# Altium footprint library DIOT_Sampler.PcbLib: 103 footprints (part 1 of 7)
Each footprint in its own frame and in the unit in brackets; x right, y up, seen from the top. Pads: shape width x height; smd on the part's side, far side on the other; paste and mask are expansions set on the pad; w line width, h text height; cw(c..) or ccw(c..) is an arc to the next point about the centre after c.
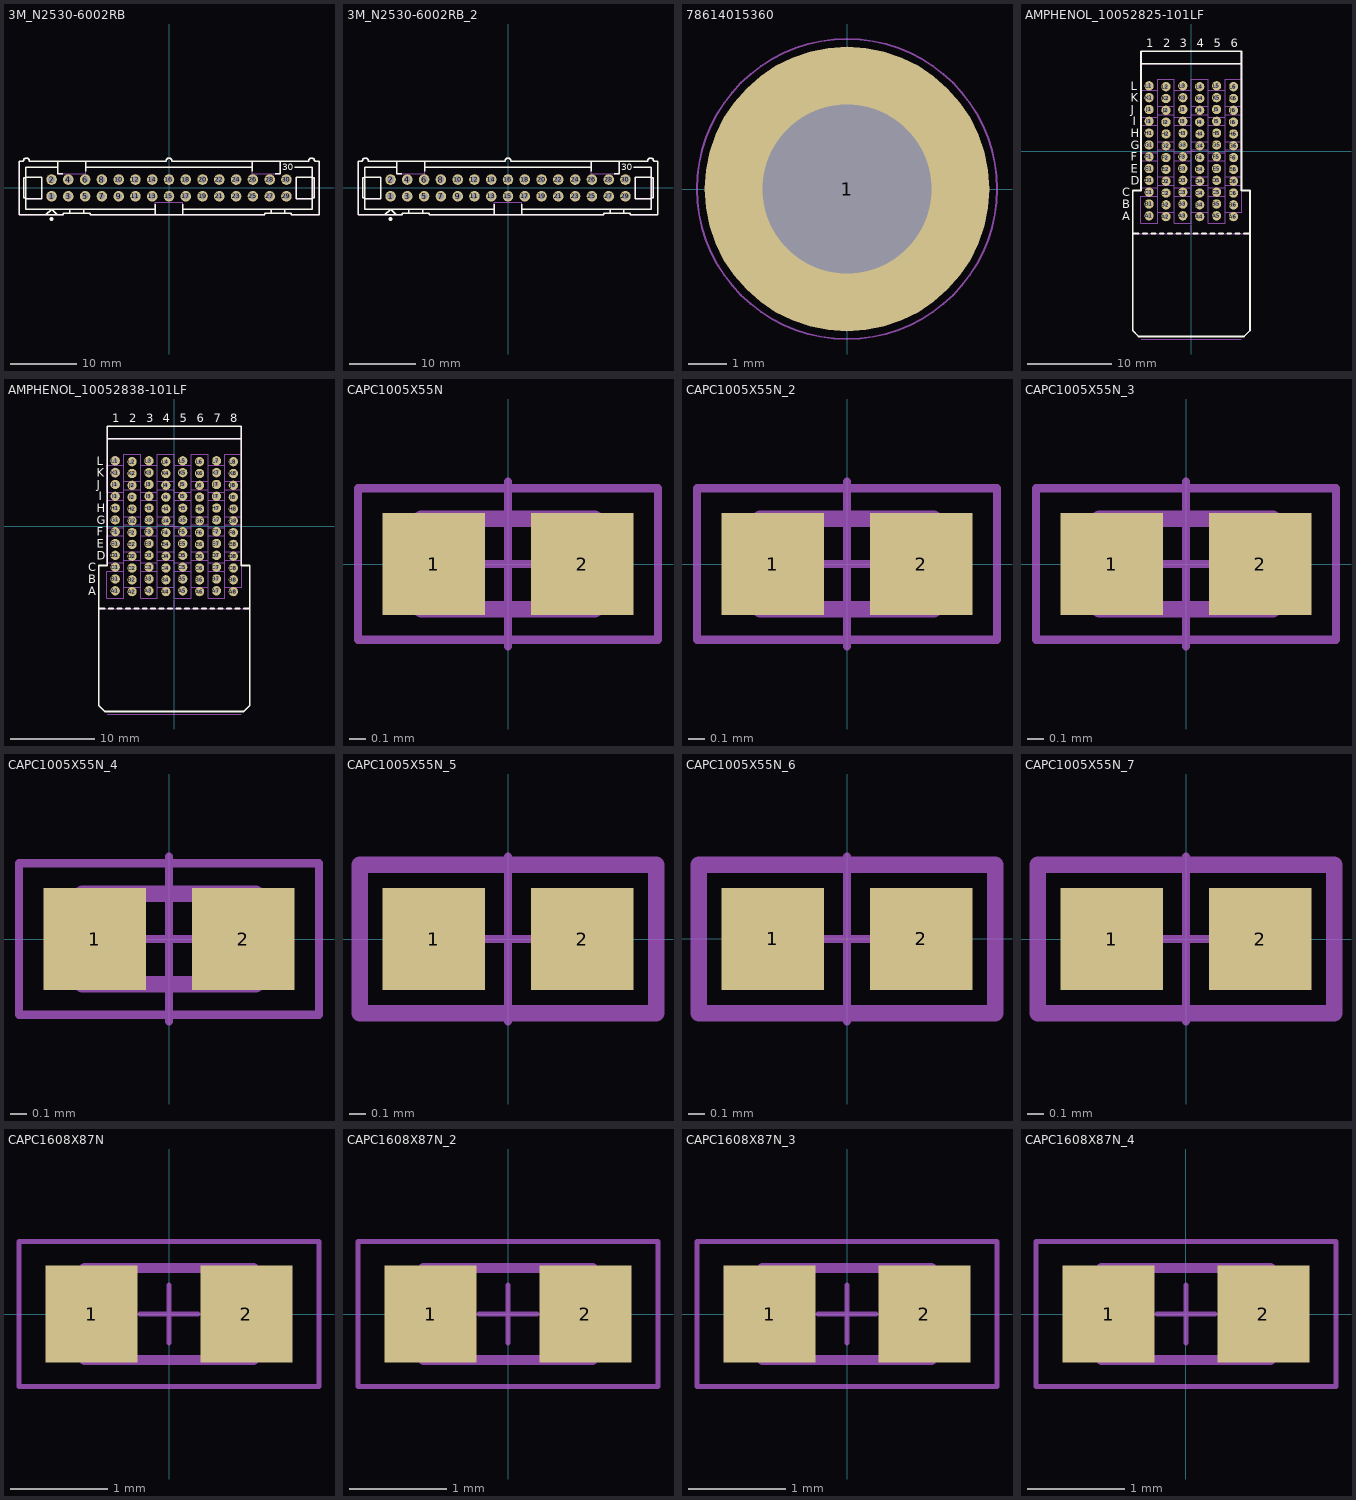
[diagram p0: the footprints below, top view; thin cyan lines are the x and y axes]

## 3M_N2530-6002RB [mm]
pads (30):
  round 1.6 hole 1: 1(-17.78,-1.27) 2(-17.78,1.27) 3(-15.24,-1.27) 4(-15.24,1.27) 5(-12.7,-1.27) 6(-12.7,1.27) 7(-10.16,-1.27) 8(-10.16,1.27) 9(-7.62,-1.27) 10(-7.62,1.27) 11(-5.08,-1.27) 12(-5.08,1.27) 13(-2.54,-1.27) 14(-2.54,1.27) 15(0,-1.27) 16(0,1.27) 17(2.54,-1.27) 18(2.54,1.27) 19(5.08,-1.27) 20(5.08,1.27) 21(7.62,-1.27) 22(7.62,1.27) 23(10.16,-1.27) 24(10.16,1.27) 25(12.7,-1.27) 26(12.7,1.27) 27(15.24,-1.27) 28(15.24,1.27) 29(17.78,-1.27) 30(17.78,1.27)
Top Overlay:
  circle w0.3: c-17.78,-4.699 r0.15
  lines w0.2: -21.692,-1.603 -19.279,-1.603 -19.279,1.603 -21.692,1.603 ; -21.692,-1.524 -21.996,-1.524 -21.996,1.524 -21.692,1.524 ; -18.644,-4.064 -17.78,-3.2 -16.916,-4.064 ; -16.828,3.15 -21.692,3.15 -21.692,-3.2 -2.095,-3.2 ; -16.828,4.064 -16.828,2.159 -16.119,2.159 ; -15.011,-3.835 -15.011,-3.2 ; -12.929,-3.835 -12.929,-3.2 ; -12.636,2.518 -12.636,4.064 ; -12.636,3.15 12.636,3.15 ; -2.095,-4.064 -2.095,-2.438 ; 2.095,-4.064 2.095,-2.438 ; 2.095,-3.2 21.692,-3.2 21.692,3.15 19.05,3.15 ; 12.636,2.518 12.636,4.064 ; 15.469,-3.835 15.469,-3.2 ; 16.119,2.159 16.828,2.159 16.828,4.064 ; 17.551,-3.835 17.551,-3.2 ; 21.692,-1.603 19.279,-1.603 19.279,1.603 21.692,1.603 ; 21.692,-1.524 21.996,-1.524 21.996,1.524 21.692,1.524 ; -22.708,-4.064 -22.708,4.064 -22.047,4.064 cw(c-21.59,4.064) -21.133,4.064 -0.457,4.064 cw(c0,4.064) 0.457,4.064 21.133,4.064 cw(c21.59,4.064) 22.047,4.064 22.708,4.064 22.708,-4.064 18.542,-4.064 18.542,-3.835 14.478,-3.835 14.478,-4.064 -11.938,-4.064 -11.938,-3.835 -16.002,-3.835 -16.002,-4.064 -22.708,-4.064
  text "30" at 17.145,2.667 h1.02
Mechanical 14:
  lines w0.1: -21.692,-1.603 -19.279,-1.603 -19.279,1.603 -21.692,1.603 ; -21.692,-1.524 -21.996,-1.524 -21.996,1.524 -21.692,1.524 ; -18.644,-4.064 -17.78,-3.2 -16.916,-4.064 ; -16.828,3.15 -21.692,3.15 -21.692,-3.2 -2.095,-3.2 ; -16.828,4.064 -16.828,2.159 -12.636,2.159 -12.636,4.064 ; -15.011,-3.835 -15.011,-3.2 ; -12.929,-3.835 -12.929,-3.2 ; -12.636,3.15 12.636,3.15 ; -2.095,-4.064 -2.095,-2.159 2.095,-2.159 2.095,-4.064 ; 2.095,-3.2 21.692,-3.2 21.692,3.15 19.05,3.15 ; 12.636,4.064 12.636,2.159 16.828,2.159 16.828,4.064 ; 15.469,-3.835 15.469,-3.2 ; 17.551,-3.835 17.551,-3.2 ; 21.692,-1.603 19.279,-1.603 19.279,1.603 21.692,1.603 ; 21.692,-1.524 21.996,-1.524 21.996,1.524 21.692,1.524 ; -22.708,-4.064 -22.708,4.064 -22.047,4.064 cw(c-21.59,4.064) -21.133,4.064 -0.457,4.064 cw(c0,4.064) 0.457,4.064 21.133,4.064 cw(c21.59,4.064) 22.047,4.064 22.708,4.064 22.708,-4.064 18.542,-4.064 18.542,-3.835 14.478,-3.835 14.478,-4.064 -11.938,-4.064 -11.938,-3.835 -16.002,-3.835 -16.002,-4.064 -22.708,-4.064
  text "30" at 17.145,2.667 h1.02
3D body "3M_N2530-6002RB.stp": height 9.91, standoff -2.84, extent -22.707,-4.115 22.708,4.521

## 3M_N2530-6002RB_2 [mm]
pads (30):
  round 1.6 hole 1: 1(-17.78,-1.27) 2(-17.78,1.27) 3(-15.24,-1.27) 4(-15.24,1.27) 5(-12.7,-1.27) 6(-12.7,1.27) 7(-10.16,-1.27) 8(-10.16,1.27) 9(-7.62,-1.27) 10(-7.62,1.27) 11(-5.08,-1.27) 12(-5.08,1.27) 13(-2.54,-1.27) 14(-2.54,1.27) 15(0,-1.27) 16(0,1.27) 17(2.54,-1.27) 18(2.54,1.27) 19(5.08,-1.27) 20(5.08,1.27) 21(7.62,-1.27) 22(7.62,1.27) 23(10.16,-1.27) 24(10.16,1.27) 25(12.7,-1.27) 26(12.7,1.27) 27(15.24,-1.27) 28(15.24,1.27) 29(17.78,-1.27) 30(17.78,1.27)
Top Overlay:
  circle w0.3: c-17.78,-4.699 r0.15
  lines w0.2: -21.692,-1.603 -19.279,-1.603 -19.279,1.603 -21.692,1.603 ; -21.692,-1.524 -21.996,-1.524 -21.996,1.524 -21.692,1.524 ; -18.644,-4.064 -17.78,-3.2 -16.916,-4.064 ; -16.828,3.15 -21.692,3.15 -21.692,-3.2 -2.096,-3.2 ; -16.828,4.064 -16.828,2.159 -16.119,2.159 ; -15.011,-3.835 -15.011,-3.2 ; -12.929,-3.835 -12.929,-3.2 ; -12.637,2.518 -12.637,4.064 ; -12.637,3.15 12.637,3.15 ; -2.096,-4.064 -2.096,-2.438 ; 2.095,-4.064 2.095,-2.438 ; 2.095,-3.2 21.692,-3.2 21.692,3.15 19.05,3.15 ; 12.637,2.518 12.637,4.064 ; 15.469,-3.835 15.469,-3.2 ; 16.119,2.159 16.828,2.159 16.828,4.064 ; 17.551,-3.835 17.551,-3.2 ; 21.692,-1.603 19.279,-1.603 19.279,1.603 21.692,1.603 ; 21.692,-1.524 21.996,-1.524 21.996,1.524 21.692,1.524 ; -22.708,-4.064 -22.708,4.064 -22.047,4.064 cw(c-21.59,4.064) -21.133,4.064 -0.457,4.064 cw(c0,4.064) 0.457,4.064 21.133,4.064 cw(c21.59,4.064) 22.047,4.064 22.708,4.064 22.708,-4.064 18.542,-4.064 18.542,-3.835 14.478,-3.835 14.478,-4.064 -11.938,-4.064 -11.938,-3.835 -16.002,-3.835 -16.002,-4.064 -22.708,-4.064
  text "30" at 17.145,2.667 h1.02
Mechanical 14:
  lines w0.1: -21.692,-1.603 -19.279,-1.603 -19.279,1.603 -21.692,1.603 ; -21.692,-1.524 -21.996,-1.524 -21.996,1.524 -21.692,1.524 ; -18.644,-4.064 -17.78,-3.2 -16.916,-4.064 ; -16.828,3.15 -21.692,3.15 -21.692,-3.2 -2.096,-3.2 ; -16.828,4.064 -16.828,2.159 -12.637,2.159 -12.637,4.064 ; -15.011,-3.835 -15.011,-3.2 ; -12.929,-3.835 -12.929,-3.2 ; -12.637,3.15 12.637,3.15 ; -2.096,-4.064 -2.096,-2.159 2.095,-2.159 2.095,-4.064 ; 2.095,-3.2 21.692,-3.2 21.692,3.15 19.05,3.15 ; 12.637,4.064 12.637,2.159 16.828,2.159 16.828,4.064 ; 15.469,-3.835 15.469,-3.2 ; 17.551,-3.835 17.551,-3.2 ; 21.692,-1.603 19.279,-1.603 19.279,1.603 21.692,1.603 ; 21.692,-1.524 21.996,-1.524 21.996,1.524 21.692,1.524 ; -22.708,-4.064 -22.708,4.064 -22.047,4.064 cw(c-21.59,4.064) -21.133,4.064 -0.457,4.064 cw(c0,4.064) 0.457,4.064 21.133,4.064 cw(c21.59,4.064) 22.047,4.064 22.708,4.064 22.708,-4.064 18.542,-4.064 18.542,-3.835 14.478,-3.835 14.478,-4.064 -11.938,-4.064 -11.938,-3.835 -16.002,-3.835 -16.002,-4.064 -22.708,-4.064
  text "30" at 17.145,2.667 h1.02
3D body "3M_N2530-6002RB.stp": height 9.91, standoff -2.84, extent -22.707,-4.115 22.708,4.521

## 78614015360 [mm]
pads (1):
  round 7.4 / inner round 0 / far side round 0 hole 4.4 unplated: 1(0,0)
Top Paste:
  region: -3.613,0.4 -2.204,0.4 -2.167,0.566 -2.057,0.886 -1.9,1.186 -1.699,1.46 -1.46,1.699 -1.186,1.9 -0.886,2.057 -0.566,2.167 -0.4,2.204 -0.4,3.613 -0.603,3.59 -1.003,3.5 -1.389,3.365 -1.758,3.188 -2.105,2.97 -2.425,2.715 -2.715,2.426 -2.97,2.106 -3.188,1.759 -3.365,1.39 -3.5,1.003 -3.59,0.604 -3.613,0.4
  region: -0.4,-3.613 -0.4,-2.204 -0.566,-2.167 -0.886,-2.057 -1.186,-1.9 -1.46,-1.699 -1.699,-1.46 -1.9,-1.186 -2.057,-0.886 -2.167,-0.566 -2.204,-0.4 -3.613,-0.4 -3.59,-0.603 -3.5,-1.003 -3.365,-1.389 -3.188,-1.758 -2.97,-2.105 -2.715,-2.425 -2.426,-2.715 -2.106,-2.97 -1.759,-3.188 -1.39,-3.365 -1.003,-3.5 -0.604,-3.59 -0.4,-3.613
  region: 3.613,-0.4 2.204,-0.4 2.167,-0.566 2.057,-0.886 1.9,-1.186 1.699,-1.46 1.46,-1.699 1.186,-1.9 0.886,-2.057 0.566,-2.167 0.4,-2.204 0.4,-3.613 0.603,-3.59 1.003,-3.5 1.389,-3.365 1.758,-3.188 2.105,-2.97 2.425,-2.715 2.715,-2.426 2.97,-2.106 3.188,-1.759 3.365,-1.39 3.5,-1.003 3.59,-0.604 3.613,-0.4
  region: 0.4,3.613 0.4,2.204 0.566,2.167 0.886,2.057 1.186,1.9 1.46,1.699 1.699,1.46 1.9,1.186 2.057,0.886 2.167,0.566 2.204,0.4 3.613,0.4 3.59,0.603 3.5,1.003 3.365,1.389 3.188,1.758 2.97,2.105 2.715,2.425 2.426,2.715 2.106,2.97 1.759,3.188 1.39,3.365 1.003,3.5 0.604,3.59 0.4,3.613
Top 3D Body:
  circle w0.1: c0,0 r3
Top Courtyard:
  circle w0.05: c0,0 r3.9
  lines w0.05: -0.5,0 0.5,0 ; 0,-0.5 0,0.5
Top Designator:
  text ".Designator" at -7.498,-0.5 h1.5
Top Component Outline:
  circle w0.1: c0,0 r3
3D body "78614015360.stp": height 1.5, standoff -1.4, extent -2.997,-3 2.997,2.988

## AMPHENOL_10052825-101LF [mm]
pads (72):
  round 1.1 hole 0.5: A1(-5,-7.65) A2(-3,-7.75) A3(-1,-7.65) A4(1,-7.75) A5(3,-7.65) A6(5,-7.75) B1(-5,-6.25) B2(-3,-6.35) B3(-1,-6.25) B4(1,-6.35) B5(3,-6.25) B6(5,-6.35) C1(-5,-4.85) C2(-3,-4.95) C3(-1,-4.85) C4(1,-4.95) C5(3,-4.85) C6(5,-4.95) D1(-5,-3.45) D2(-3,-3.55) D3(-1,-3.45) D4(1,-3.55) D5(3,-3.45) D6(5,-3.55) E1(-5,-2.05) E2(-3,-2.15) E3(-1,-2.05) E4(1,-2.15) E5(3,-2.05) E6(5,-2.15) F1(-5,-0.65) F2(-3,-0.75) F3(-1,-0.65) F4(1,-0.75) F5(3,-0.65) F6(5,-0.75) G1(-5,0.75) G2(-3,0.65) G3(-1,0.75) G4(1,0.65) G5(3,0.75) G6(5,0.65) H1(-5,2.15) H2(-3,2.05) H3(-1,2.15) H4(1,2.05) H5(3,2.15) H6(5,2.05) I1(-5,3.55) I2(-3,3.45) I3(-1,3.55) I4(1,3.45) I5(3,3.55) I6(5,3.45) J1(-5,4.95) J2(-3,4.85) J3(-1,4.95) J4(1,4.85) J5(3,4.95) J6(5,4.85) K1(-5,6.35) K2(-3,6.25) K3(-1,6.35) K4(1,6.25) K5(3,6.35) K6(5,6.25) L1(-5,7.75) L2(-3,7.65) L3(-1,7.75) L4(1,7.65) L5(3,7.75) L6(5,7.65)
Top Overlay:
  lines w0.2: -6.95,-9.75 -6.25,-9.75 ; -5.95,10.35 5.95,10.35 ; -5.75,-9.75 -5.25,-9.75 ; -4.75,-9.75 -4.25,-9.75 ; -3.75,-9.75 -3.25,-9.75 ; -2.75,-9.75 -2.25,-9.75 ; -1.75,-9.75 -1.25,-9.75 ; -0.75,-9.75 -0.25,-9.75 ; 0.25,-9.75 0.75,-9.75 ; 1.25,-9.75 1.75,-9.75 ; 2.25,-9.75 2.75,-9.75 ; 3.25,-9.75 3.75,-9.75 ; 4.25,-9.75 4.75,-9.75 ; 5.25,-9.75 5.75,-9.75 ; 6.25,-9.75 6.95,-9.75 ; -6.95,-21.25 -6.95,-4.65 -5.95,-4.65 -5.95,11.85 5.95,11.85 5.95,-4.65 6.95,-4.65 6.95,-21.25 6.25,-21.95 -6.25,-21.95 -6.95,-21.25
  text "A" at -8.2,-8.15 h1
  text "B" at -8.2,-6.75 h1
  text "C" at -8.2,-5.35 h1
  text "D" at -7.2,-3.95 h1
  text "E" at -7.2,-2.55 h1
  text "F" at -7.2,-1.15 h1
  text "G" at -7.2,0.25 h1
  text "H" at -7.2,1.65 h1
  text "I" at -6.95,3.05 h1
  text "J" at -7.2,4.45 h1
  text "K" at -7.2,5.85 h1
  text "L" at -7.2,7.25 h1
  text "1" at -5.35,12.3 h1
  text "2" at -3.35,12.3 h1
  text "3" at -1.35,12.3 h1
  text "4" at 0.65,12.3 h1
  text "5" at 2.65,12.3 h1
  text "6" at 4.65,12.3 h1
Mechanical 8:
  drawing of 248 lines, arcs and shapes, not listed
  text "Top Surface of Mother Board" at -4.375,-22 h0.5
  text "Edge of Daugher Card" at -3.225,-10.5 h0.5
Mechanical 14:
  lines w0.1: -6.95,-9.75 -6.25,-9.75 ; -5.95,10.35 5.95,10.35 ; -5.75,-9.75 -5.25,-9.75 ; -4.75,-9.75 -4.25,-9.75 ; -3.75,-9.75 -3.25,-9.75 ; -2.75,-9.75 -2.25,-9.75 ; -1.75,-9.75 -1.25,-9.75 ; -0.75,-9.75 -0.25,-9.75 ; 0.25,-9.75 0.75,-9.75 ; 1.25,-9.75 1.75,-9.75 ; 2.25,-9.75 2.75,-9.75 ; 3.25,-9.75 3.75,-9.75 ; 4.25,-9.75 4.75,-9.75 ; 5.25,-9.75 5.75,-9.75 ; 6.25,-9.75 6.95,-9.75 ; -6.95,-21.25 -6.95,-4.65 -5.95,-4.65 -5.95,11.85 5.95,11.85 5.95,-4.65 6.95,-4.65 6.95,-21.25 6.25,-21.95 -6.25,-21.95 -6.95,-21.25
  text "A" at -8.2,-8.15 h1
  text "B" at -8.2,-6.75 h1
  text "C" at -8.2,-5.35 h1
  text "D" at -7.2,-3.95 h1
  text "E" at -7.2,-2.55 h1
  text "F" at -7.2,-1.15 h1
  text "G" at -7.2,0.25 h1
  text "H" at -7.2,1.65 h1
  text "I" at -6.95,3.05 h1
  text "J" at -7.2,4.45 h1
  text "K" at -7.2,5.85 h1
  text "L" at -7.2,7.25 h1
  text "1" at -5.35,12.3 h1
  text "2" at -3.35,12.3 h1
  text "3" at -1.35,12.3 h1
  text "4" at 0.65,12.3 h1
  text "5" at 2.65,12.3 h1
  text "6" at 4.65,12.3 h1
Drill Drawing:
  lines w0.1: -6,-8.75 6,-8.75 6,8.75 -6,8.75 -6,-8.75
  text "PRESS-FIT TECHNOLOGY" at 7.5,-8.4 h1
  text "Diam. 0.5mm +/-0.05" at 9,-8.4 h1
3D body "AMPHENOL_10052825-101LF.stp": height 15.25, standoff -4.45, extent -6.95,-21.95 6.95,11.85

## AMPHENOL_10052838-101LF [mm]
pads (96):
  round 1.1 hole 0.5: A1(-7,-7.65) A2(-5,-7.75) A3(-3,-7.65) A4(-1,-7.75) A5(1,-7.65) A6(3,-7.75) A7(5,-7.65) A8(7,-7.75) B1(-7,-6.25) B2(-5,-6.35) B3(-3,-6.25) B4(-1,-6.35) B5(1,-6.25) B6(3,-6.35) B7(5,-6.25) B8(7,-6.35) C1(-7,-4.85) C2(-5,-4.95) C3(-3,-4.85) C4(-1,-4.95) C5(1,-4.85) C6(3,-4.95) C7(5,-4.85) C8(7,-4.95) D1(-7,-3.45) D2(-5,-3.55) D3(-3,-3.45) D4(-1,-3.55) D5(1,-3.45) D6(3,-3.55) D7(5,-3.45) D8(7,-3.55) E1(-7,-2.05) E2(-5,-2.15) E3(-3,-2.05) E4(-1,-2.15) E5(1,-2.05) E6(3,-2.15) E7(5,-2.05) E8(7,-2.15) F1(-7,-0.65) F2(-5,-0.75) F3(-3,-0.65) F4(-1,-0.75) F5(1,-0.65) F6(3,-0.75) F7(5,-0.65) F8(7,-0.75) G1(-7,0.75) G2(-5,0.65) G3(-3,0.75) G4(-1,0.65) G5(1,0.75) G6(3,0.65) G7(5,0.75) G8(7,0.65) H1(-7,2.15) H2(-5,2.05) H3(-3,2.15) H4(-1,2.05) H5(1,2.15) H6(3,2.05) H7(5,2.15) H8(7,2.05) I1(-7,3.55) I2(-5,3.45) I3(-3,3.55) I4(-1,3.45) I5(1,3.55) I6(3,3.45) I7(5,3.55) I8(7,3.45) J1(-7,4.95) J2(-5,4.85) J3(-3,4.95) J4(-1,4.85) J5(1,4.95) J6(3,4.85) J7(5,4.95) J8(7,4.85) K1(-7,6.35) K2(-5,6.25) K3(-3,6.35) K4(-1,6.25) K5(1,6.35) K6(3,6.25) K7(5,6.35) K8(7,6.25) L1(-7,7.75) L2(-5,7.65) L3(-3,7.75) L4(-1,7.65) L5(1,7.75) L6(3,7.65) L7(5,7.75) L8(7,7.65)
Top Overlay:
  lines w0.2: -8.95,-9.75 -8.25,-9.75 ; -7.95,10.35 7.95,10.35 ; -7.75,-9.75 -7.25,-9.75 ; -6.75,-9.75 -6.25,-9.75 ; -5.75,-9.75 -5.25,-9.75 ; -4.75,-9.75 -4.25,-9.75 ; -3.75,-9.75 -3.25,-9.75 ; -2.75,-9.75 -2.25,-9.75 ; -1.75,-9.75 -1.25,-9.75 ; -0.75,-9.75 -0.25,-9.75 ; 0.25,-9.75 0.75,-9.75 ; 1.25,-9.75 1.75,-9.75 ; 2.25,-9.75 2.75,-9.75 ; 3.25,-9.75 3.75,-9.75 ; 4.25,-9.75 4.75,-9.75 ; 5.25,-9.75 5.75,-9.75 ; 6.25,-9.75 6.75,-9.75 ; 7.25,-9.75 7.75,-9.75 ; 8.25,-9.75 8.95,-9.75 ; -8.95,-21.25 -8.95,-4.65 -7.95,-4.65 -7.95,11.85 7.95,11.85 7.95,-4.65 8.95,-4.65 8.95,-21.25 8.25,-21.95 -8.25,-21.95 -8.95,-21.25
  text "7" at 4.65,12.3 h1
  text "8" at 6.65,12.3 h1
  text "6" at 2.65,12.3 h1
  text "5" at 0.65,12.3 h1
  text "4" at -1.35,12.3 h1
  text "3" at -3.35,12.3 h1
  text "2" at -5.35,12.3 h1
  text "1" at -7.35,12.3 h1
  text "L" at -9.2,7.25 h1
  text "K" at -9.2,5.85 h1
  text "J" at -9.2,4.45 h1
  text "I" at -8.95,3.05 h1
  text "H" at -9.2,1.65 h1
  text "G" at -9.2,0.25 h1
  text "F" at -9.2,-1.15 h1
  text "E" at -9.2,-2.55 h1
  text "D" at -9.2,-3.95 h1
  text "C" at -10.2,-5.35 h1
  text "B" at -10.2,-6.75 h1
  text "A" at -10.2,-8.15 h1
Mechanical 8:
  drawing of 337 lines, arcs and shapes, not listed
  text "Edge of Daugher Card" at -3.225,-10.5 h0.5
  text "Top Surface of Mother Board" at -4.375,-22 h0.5
Mechanical 14:
  lines w0.1: -8.95,-9.75 -8.25,-9.75 ; -7.95,10.35 7.95,10.35 ; -7.75,-9.75 -7.25,-9.75 ; -6.75,-9.75 -6.25,-9.75 ; -5.75,-9.75 -5.25,-9.75 ; -4.75,-9.75 -4.25,-9.75 ; -3.75,-9.75 -3.25,-9.75 ; -2.75,-9.75 -2.25,-9.75 ; -1.75,-9.75 -1.25,-9.75 ; -0.75,-9.75 -0.25,-9.75 ; 0.25,-9.75 0.75,-9.75 ; 1.25,-9.75 1.75,-9.75 ; 2.25,-9.75 2.75,-9.75 ; 3.25,-9.75 3.75,-9.75 ; 4.25,-9.75 4.75,-9.75 ; 5.25,-9.75 5.75,-9.75 ; 6.25,-9.75 6.75,-9.75 ; 7.25,-9.75 7.75,-9.75 ; 8.25,-9.75 8.95,-9.75 ; -8.95,-21.25 -8.95,-4.65 -7.95,-4.65 -7.95,11.85 7.95,11.85 7.95,-4.65 8.95,-4.65 8.95,-21.25 8.25,-21.95 -8.25,-21.95 -8.95,-21.25
  text "7" at 4.65,12.3 h1
  text "8" at 6.65,12.3 h1
  text "6" at 2.65,12.3 h1
  text "5" at 0.65,12.3 h1
  text "4" at -1.35,12.3 h1
  text "3" at -3.35,12.3 h1
  text "2" at -5.35,12.3 h1
  text "1" at -7.35,12.3 h1
  text "L" at -9.2,7.25 h1
  text "K" at -9.2,5.85 h1
  text "J" at -9.2,4.45 h1
  text "I" at -8.95,3.05 h1
  text "H" at -9.2,1.65 h1
  text "G" at -9.2,0.25 h1
  text "F" at -9.2,-1.15 h1
  text "E" at -9.2,-2.55 h1
  text "D" at -9.2,-3.95 h1
  text "C" at -10.2,-5.35 h1
  text "B" at -10.2,-6.75 h1
  text "A" at -10.2,-8.15 h1
Drill Drawing:
  lines w0.1: -8,-8.75 -8,8.75 8,8.75 8,-8.75 -8,-8.75
  text "Diam. 0.5mm +/-0.05" at 11,-8.4 h1
  text "PRESS-FIT TECHNOLOGY" at 9.5,-8.4 h1
3D body "AMPHENOL_10052838-101LF.stp": height 15.25, standoff -4.45, extent -8.95,-21.95 8.95,11.85

## CAPC1005X55N [mm]
pads (2):
  rect 0.62x0.62 smd: 1(-0.45,0) 2(0.45,0)
Mechanical 14:
  lines w0.1: -0.525,-0.275 0.525,-0.275 0.525,0.275 -0.525,0.275 -0.525,-0.275
Mechanical 15:
  lines w0.05: -0.5,0 0.5,0 ; 0,-0.5 0,0.5 ; -0.91,-0.46 0.91,-0.46 0.91,0.46 -0.91,0.46 -0.91,-0.46
3D body "CAPC1005X55N.stp": height 0.55, standoff 0, extent -0.525,-0.275 0.525,0.275

## CAPC1005X55N_2 [mm]
pads (2):
  rect 0.62x0.62 smd: 1(-0.45,0) 2(0.45,0)
Mechanical 14:
  lines w0.1: -0.525,-0.275 -0.525,0.275 0.525,0.275 0.525,-0.275 -0.525,-0.275
Mechanical 15:
  lines w0.05: -0.5,0 0.5,0 ; 0,-0.5 0,0.5 ; -0.91,-0.46 -0.91,0.46 0.91,0.46 0.91,-0.46 -0.91,-0.46
3D body "CAPC1005X55N.stp": height 0.55, standoff 0, extent -0.525,-0.275 0.525,0.275

## CAPC1005X55N_3 [mm]
pads (2):
  rect 0.62x0.62 smd: 1(-0.45,0) 2(0.45,0)
Mechanical 14:
  lines w0.1: -0.525,-0.275 0.525,-0.275 0.525,0.275 -0.525,0.275 -0.525,-0.275
Mechanical 15:
  lines w0.05: -0.5,0 0.5,0 ; 0,-0.5 0,0.5 ; -0.91,-0.46 0.91,-0.46 0.91,0.46 -0.91,0.46 -0.91,-0.46
3D body "CAPC1005X55N.stp": height 0.55, standoff 0, extent -0.525,-0.275 0.525,0.275

## CAPC1005X55N_4 [mm]
pads (2):
  rect 0.62x0.62 smd: 1(-0.45,0) 2(0.45,0)
Mechanical 14:
  lines w0.1: -0.525,-0.275 -0.525,0.275 0.525,0.275 0.525,-0.275 -0.525,-0.275
Mechanical 15:
  lines w0.05: -0.5,0 0.5,0 ; 0,-0.5 0,0.5 ; -0.91,-0.46 -0.91,0.46 0.91,0.46 0.91,-0.46 -0.91,-0.46
3D body "CAPC1005X55N.stp": height 0.55, standoff 0, extent -0.525,-0.275 0.525,0.275

## CAPC1005X55N_5 [mm]
pads (2):
  rect 0.62x0.62 smd: 1(-0.45,0) 2(0.45,0)
Mechanical 14:
  lines w0.1: -0.9,-0.45 0.9,-0.45 0.9,0.45 -0.9,0.45 -0.9,-0.45
Mechanical 15:
  lines w0.05: -0.5,0 0.5,0 ; 0,-0.5 0,0.5 ; -0.91,-0.46 0.91,-0.46 0.91,0.46 -0.91,0.46 -0.91,-0.46
3D body "CAPC1005X55N.stp": height 0.55, standoff 0, extent -0.525,-0.275 0.525,0.275

## CAPC1005X55N_6 [mm]
pads (2):
  rect 0.62x0.62 smd: 1(-0.45,0) 2(0.45,0)
Mechanical 14:
  lines w0.1: -0.9,-0.45 -0.9,0.45 0.9,0.45 0.9,-0.45 -0.9,-0.45
Mechanical 15:
  lines w0.05: -0.5,0 0.5,0 ; 0,-0.5 0,0.5 ; -0.91,-0.46 -0.91,0.46 0.91,0.46 0.91,-0.46 -0.91,-0.46
3D body "CAPC1005X55N.stp": height 0.55, standoff 0, extent -0.525,-0.275 0.525,0.275

## CAPC1005X55N_7 [mm]
pads (2):
  rect 0.62x0.62 smd: 1(-0.45,0) 2(0.45,0)
Mechanical 14:
  lines w0.1: -0.9,-0.45 0.9,-0.45 0.9,0.45 -0.9,0.45 -0.9,-0.45
Mechanical 15:
  lines w0.05: -0.5,0 0.5,0 ; 0,-0.5 0,0.5 ; -0.91,-0.46 0.91,-0.46 0.91,0.46 -0.91,0.46 -0.91,-0.46
3D body "CAPC1005X55N.stp": height 0.55, standoff 0, extent -0.525,-0.275 0.525,0.275

## CAPC1608X87N [mm]
pads (2):
  rect 0.95x1 smd: 1(-0.8,0) 2(0.8,0)
Mechanical 14:
  lines w0.1: -0.875,-0.475 -0.875,0.475 0.875,0.475 0.875,-0.475 -0.875,-0.475
Mechanical 15:
  lines w0.05: -0.3,0 0.3,0 ; 0,-0.3 0,0.3 ; -1.55,-0.75 1.55,-0.75 1.55,0.75 -1.55,0.75 -1.55,-0.75
3D body "CAPC1608X87N.stp": height 0.87, standoff 0, extent -0.875,-0.475 0.875,0.475

## CAPC1608X87N_2 [mm]
pads (2):
  rect 0.95x1 smd: 1(-0.8,0) 2(0.8,0)
Mechanical 14:
  lines w0.1: -0.875,-0.475 -0.875,0.475 0.875,0.475 0.875,-0.475 -0.875,-0.475
Mechanical 15:
  lines w0.05: -0.3,0 0.3,0 ; 0,-0.3 0,0.3 ; -1.55,-0.75 1.55,-0.75 1.55,0.75 -1.55,0.75 -1.55,-0.75
3D body "CAPC1608X87N.stp": height 0.87, standoff 0, extent -0.875,-0.475 0.875,0.475

## CAPC1608X87N_3 [mm]
pads (2):
  rect 0.95x1 smd: 1(-0.8,0) 2(0.8,0)
Mechanical 14:
  lines w0.1: -0.875,-0.475 0.875,-0.475 0.875,0.475 -0.875,0.475 -0.875,-0.475
Mechanical 15:
  lines w0.05: -0.3,0 0.3,0 ; 0,-0.3 0,0.3 ; -1.55,-0.75 -1.55,0.75 1.55,0.75 1.55,-0.75 -1.55,-0.75
3D body "CAPC1608X87N.stp": height 0.87, standoff 0, extent -0.875,-0.475 0.875,0.475

## CAPC1608X87N_4 [mm]
pads (2):
  rect 0.95x1 smd: 1(-0.8,0) 2(0.8,0)
Mechanical 14:
  lines w0.1: -0.875,-0.475 -0.875,0.475 0.875,0.475 0.875,-0.475 -0.875,-0.475
Mechanical 15:
  lines w0.05: -0.3,0 0.3,0 ; 0,-0.3 0,0.3 ; -1.55,-0.75 1.55,-0.75 1.55,0.75 -1.55,0.75 -1.55,-0.75
3D body "CAPC1608X87N.stp": height 0.87, standoff 0, extent -0.875,-0.475 0.875,0.475